# Altium integrated library Elantec Video Sync Circuit.IntLib: 4 symbols
Pins are listed as number, name and electrical type; pins without a type are passive.

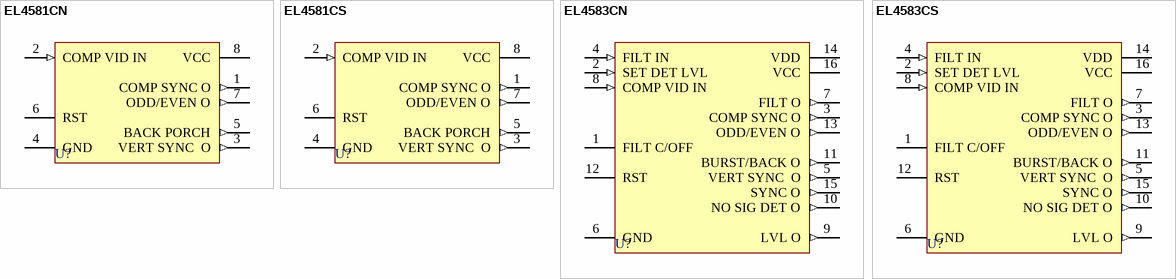
[diagram p0: symbols EL4581CN to EL4583CS]

## EL4581CN
designator U?
Sync Separator, 50% Slice, S-H, Filter; Published: 8-Jun-2000; LatestRevisionDate: 17-Jul-2002; LatestRevisionNote: Re-released for DXP Platform.; DatasheetVersion: Jan-1996; PackageReference: MDP0031-8; Publisher: Altium Limited; PackageDescription: DIP; 8 Leads; Row Spacing 7.62 mm; Pitch 2.54 mm; ComponentLink1Description: Manufacturer Link; ComponentLink1URL: http://www.intersil.com/cda/home/; ComponentLink2Description: Datasheet; ComponentLink2URL: http://www.intersil.com/data/fn/fn7172.pdf
footprint MDP0031-8 (DIP; 8 Leads; Row Spacing 7.62 mm; Pitch 2.54 mm)
pins: 1 COMP SYNC O (out), 2 COMP VID IN (in), 3 VERT SYNC  O (out), 4 GND (power), 5 BACK PORCH (out), 6 RST, 7 ODD/EVEN O (out), 8 VCC (power)

## EL4581CS
designator U?
Sync Separator, 50% Slice, S-H, Filter; Published: 8-Jun-2000; LatestRevisionDate: 13-Apr-2006; LatestRevisionNote: IPC-7351 Footprint Added.; DatasheetVersion: Jan-1996; PackageReference: SO-8; Publisher: Altium Limited; PackageDescription: 8-Pin Small Outline Integrated Circuit 1.27 mm Pitch; ComponentLink1Description: Manufacturer Link; ComponentLink1URL: http://www.intersil.com/cda/home/; ComponentLink2Description: Datasheet; ComponentLink2URL: http://www.intersil.com/data/fn/fn7172.pdf
footprint SO-8_N (SOIC, 8-Leads, Body 4.9x3.9mm, Pitch 1.27mm, IPC Medium Density)
footprint SO-8_L (SOIC, 8-Leads, Body 4.9x3.9mm, Pitch 1.27mm, IPC High Density)
footprint SO-8_M (SOIC, 8-Leads, Body 4.9x3.9mm, Pitch 1.27mm, IPC Low Density)
3D model SO-8 (8-Pin Small Outline Integrated Circuit 1.27 mm Pitch)
pins: 1 COMP SYNC O (out), 2 COMP VID IN (in), 3 VERT SYNC  O (out), 4 GND (power), 5 BACK PORCH (out), 6 RST, 7 ODD/EVEN O (out), 8 VCC (power)

## EL4583CN
designator U?
Sync Separator, 50% Slice, S-H, Filter, H out; Note: Pin 16 is Analog GND.; Published: 8-Jun-2000; LatestRevisionDate: 04-Mar-2005; LatestRevisionNote: Stylized 3D Model Added.; DatasheetVersion: Jan-1996; PackageReference: MDP0031-16; Publisher: Altium Limited; PackageDescription: DIP; 16 Leads; Row Spacing 7.62 mm; Pitch 2.54 mm; Code_JEDEC: MS-001-BB; ComponentLink1Description: Manufacturer Link; ComponentLink1URL: http://www.intersil.com/cda/home/; ComponentLink2Description: Datasheet; ComponentLink2URL: http://www.intersil.com/data/fn/fn7173.pdf
footprint MDP0031-16 (DIP; 16 Leads; Row Spacing 7.62 mm; Pitch 2.54 mm)
3D model MDP0031-16 (DIP; 16 Leads; Row Spacing 7.62 mm; Pitch 2.54 mm)
pins: 1 FILT C/OFF, 2 SET DET LVL (in), 3 COMP SYNC O (out), 4 FILT IN (in), 5 VERT SYNC  O (out), 6 GND (power), 7 FILT O (out), 8 COMP VID IN (in), 9 LVL O (out), 10 NO SIG DET O (out), 11 BURST/BACK O (out), 12 RST, 13 ODD/EVEN O (out), 14 VDD (power), 15 SYNC O (out), 16 VCC (power)

## EL4583CS
designator U?
Sync Separator, 50% Slice, S-H, Filter, H out; Note: Pin 16 is Analog GND.; Published: 8-Jun-2000; LatestRevisionDate: 13-Apr-2006; LatestRevisionNote: IPC-7351 Footprint Added.; DatasheetVersion: Jan-1996; PackageReference: SO-16; Publisher: Altium Limited; PackageDescription: 16-Pin Small Outline Integrated Circuit 1.27 mm Pitch; ComponentLink1Description: Manufacturer Link; ComponentLink1URL: http://www.intersil.com/cda/home/; ComponentLink2Description: Datasheet; ComponentLink2URL: http://www.intersil.com/data/fn/fn7173.pdf
footprint SO-16_N (SOIC, 16-Leads, Body 9.9x3.9mm, Pitch 1.27mm, IPC Medium Density)
footprint SO-16_L (SOIC, 16-Leads, Body 9.9x3.9mm, Pitch 1.27mm, IPC High Density)
footprint SO-16_M (SOIC, 16-Leads, Body 9.9x3.9mm, Pitch 1.27mm, IPC Low Density)
3D model SO-16 (16-Pin Small Outline Integrated Circuit 1.27 mm Pitch)
pins: 1 FILT C/OFF, 2 SET DET LVL (in), 3 COMP SYNC O (out), 4 FILT IN (in), 5 VERT SYNC  O (out), 6 GND (power), 7 FILT O (out), 8 COMP VID IN (in), 9 LVL O (out), 10 NO SIG DET O (out), 11 BURST/BACK O (out), 12 RST, 13 ODD/EVEN O (out), 14 VDD (power), 15 SYNC O (out), 16 VCC (power)